# Altium schematic symbol library Voltage Regulators Linear.SchLib: 5 symbols
Pins are listed as number, name and electrical type; pins without a type are passive.

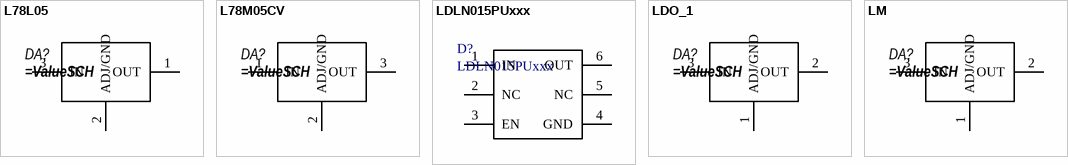
[diagram p0: symbols L78L05 to LM]

## L78L05
designator DA?
pins: 1 OUT, 2 ADJ/GND, 3 IN

## L78M05CV
designator DA?
pins: 1 IN, 2 ADJ/GND, 3 OUT

## LDLN015PUxxx
designator D?
pins: 1 IN, 2 NC, 3 EN, 4 GND, 5 NC, 6 OUT

## LDO_1
designator DA?
pins: 1 ADJ/GND, 2 OUT, 3 IN

## LM
designator DA?
pins: 1 ADJ/GND, 2 OUT, 3 IN